# Altium schematic symbol library CommunicationICs.SchLib: 6 symbols
Pins are listed as number, name and electrical type; pins without a type are passive.

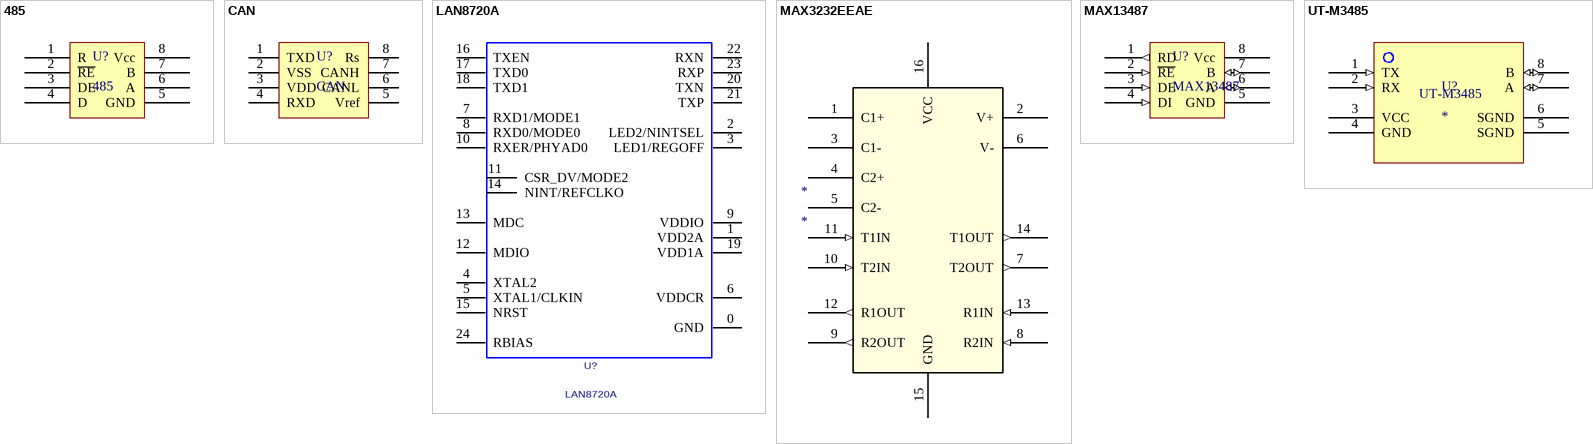
[diagram p0: symbols 485 to UT-M3485]

## 485
designator U?
footprint LC-SOIC-8_150mil
pins: 1 R, 2 ~{RE}, 3 DE, 4 D, 5 GND, 6 A, 7 B, 8 Vcc

## CAN
designator U?
footprint LC-SOIC-8_150mil
pins: 1 TXD, 2 VSS, 3 VDD, 4 RXD, 5 Vref, 6 CANL, 7 CANH, 8 Rs

## LAN8720A
designator U?
PCB DECAL: QFN24; Value: LAN8720A
footprint LC-QFN-24_4x4x05P
pins: 0 GND, 1 VDD2A, 2 LED2/NINTSEL, 3 LED1/REGOFF, 4 XTAL2, 5 XTAL1/CLKIN, 6 VDDCR, 7 RXD1/MODE1, 8 RXD0/MODE0, 9 VDDIO, 10 RXER/PHYAD0, 11 CSR_DV/MODE2, 12 MDIO, 13 MDC, 14 NINT/REFCLKO, 15 NRST, 16 TXEN, 17 TXD0, 18 TXD1, 19 VDD1A, 20 TXN, 21 TXP, 22 RXN, 23 RXP, 24 RBIAS

## MAX3232EEAE
designator *
footprint LC-SSOP-16_208mil
pins: 1 C1+, 2 V+ (power), 3 C1-, 4 C2+, 5 C2-, 6 V- (power), 7 T2OUT (out), 8 R2IN (in), 9 R2OUT (out), 10 T2IN (in), 11 T1IN (in), 12 R1OUT (out), 13 R1IN (in), 14 T1OUT (out), 15 GND (power), 16 VCC (power)

## MAX13487
designator U?
footprint LC-SOIC-8_150mil
pins: 1 RD (out), 2 ~{RE} (in), 3 DE (in), 4 DI (in), 5 GND (power), 6 A (io), 7 B (io), 8 Vcc (power)

## UT-M3485
designator U?
footprint UT-M3485 (485-ISOLATED)
pins: 1 TX (in), 2 RX (in), 3 VCC (power), 4 GND (power), 5 SGND (power), 6 SGND (power), 7 A (io), 8 B (io)